# Altium footprint library 2_way_splitter.PcbLib: 1 footprints
Each footprint in its own frame and in the unit in brackets; x right, y up, seen from the top. Pads: shape width x height; smd on the part's side, far side on the other; paste and mask are expansions set on the pad; w line width, h text height; cw(c..) or ccw(c..) is an arc to the next point about the centre after c.
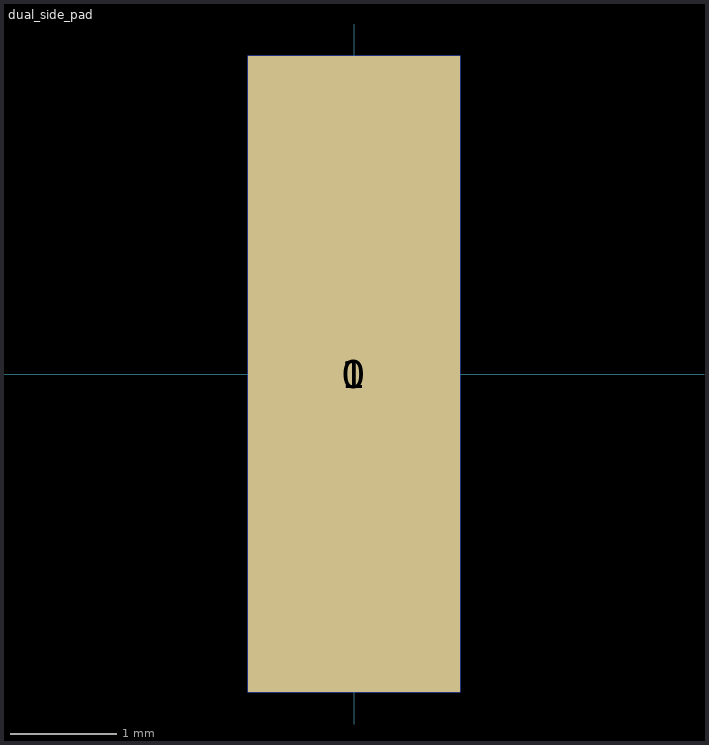
[diagram p0: the footprint, top view; thin cyan lines are the x and y axes]

## dual_side_pad [mm]
pads (2):
  rect 2x6 smd mask+0.05: 0(0,0)
  rect 2x6 smd far side mask+0.05: 1(0,0)